# Altium footprint library OWMR.PcbLib: 29 footprints (part 1 of 2)
Each footprint in its own frame and in the unit in brackets; x right, y up, seen from the top. Pads: shape width x height; smd on the part's side, far side on the other; paste and mask are expansions set on the pad; w line width, h text height; cw(c..) or ccw(c..) is an arc to the next point about the centre after c.
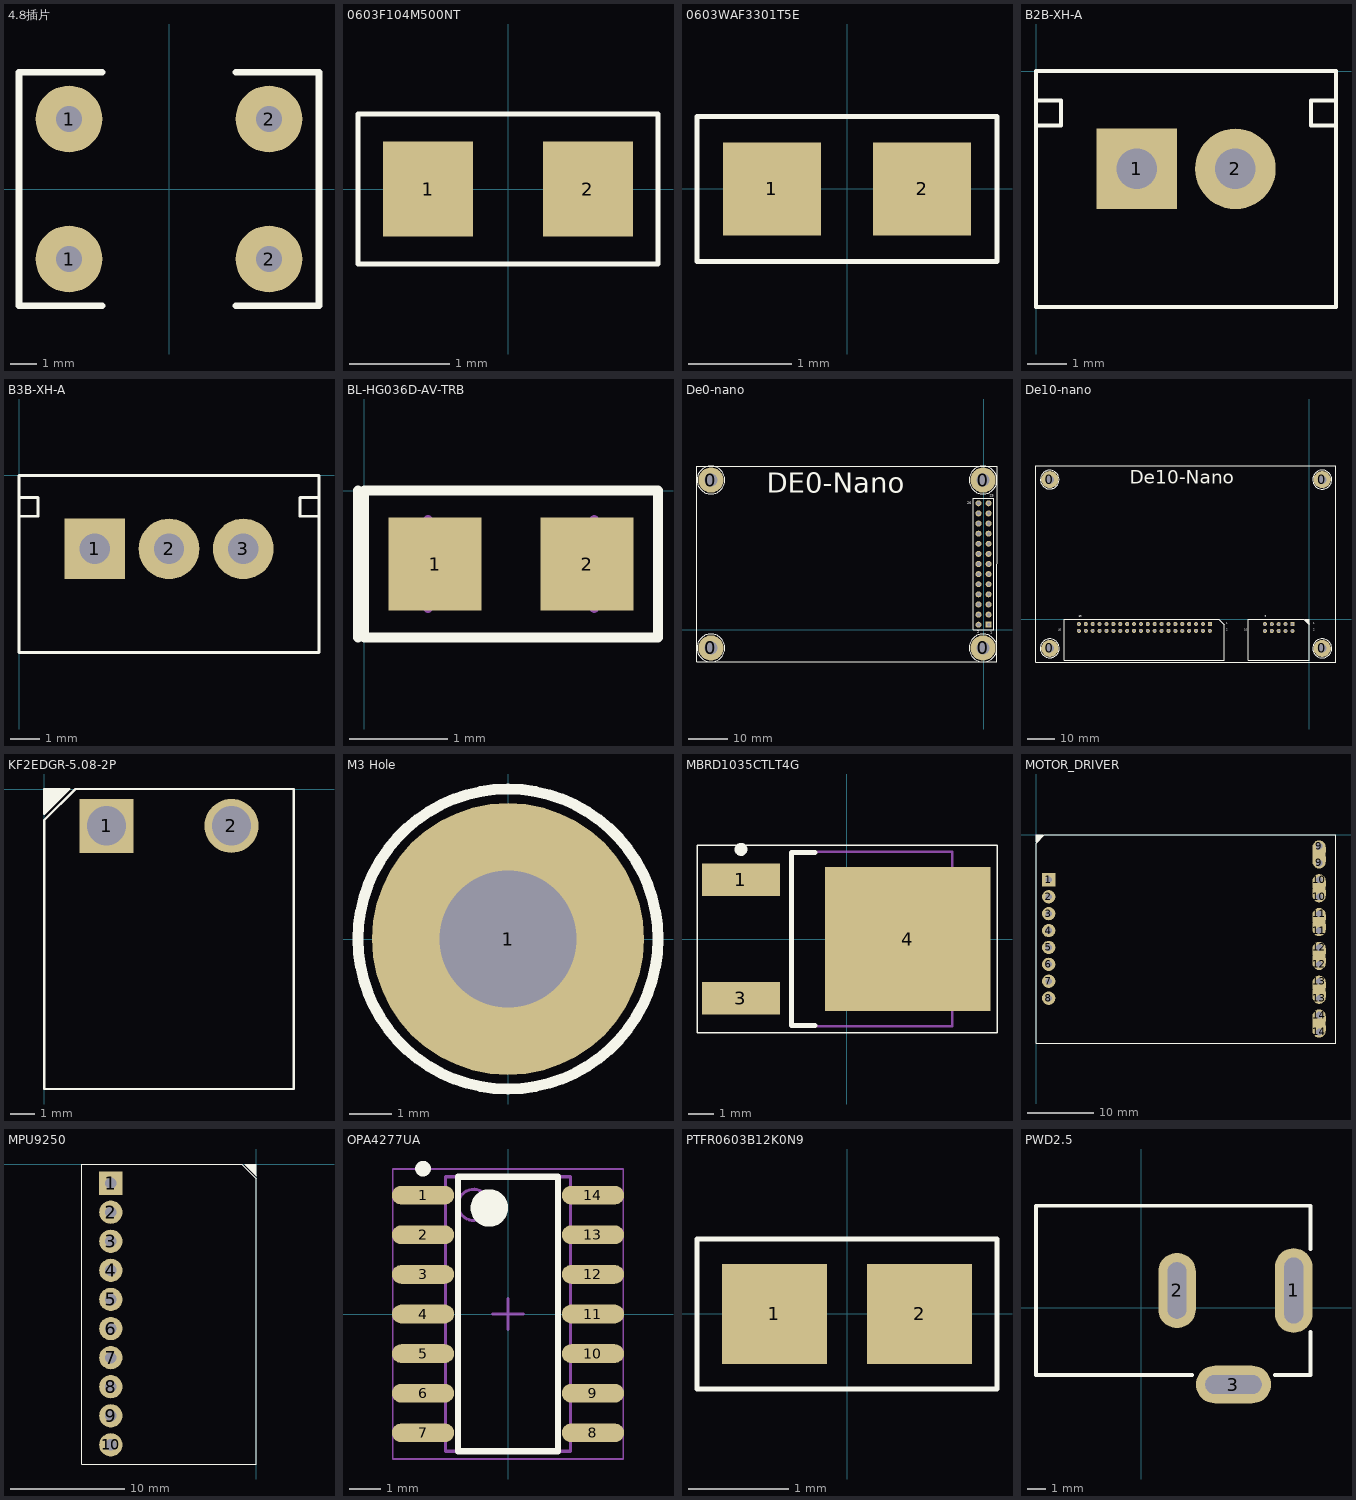
[diagram p0: the footprints below, top view; thin cyan lines are the x and y axes]

## 4.8插片 [mm]
pads (4):
  round 2.54 hole 1 square: 1(-3.81,-2.667) 1(-3.81,2.667) 2(3.81,-2.667) 2(3.81,2.667)
Top Overlay:
  lines w0.254: -2.54,-4.445 -5.715,-4.445 -5.715,4.445 -2.54,4.445 ; 2.54,-4.445 5.715,-4.445 5.715,4.445 2.54,4.445

## 0603F104M500NT [mm] "0603 50V 0.1uF SMD MLCC"
height 0.9
pads (2):
  rect 0.9x0.95 smd: 1(-0.8,0) 2(0.8,0)
Top Overlay:
  lines w0.05: -1.5,-0.75 -1.5,0.75 1.5,0.75 1.5,-0.75 -1.5,-0.75
3D body "CAPC1608X09N.step": height 0.9, standoff 0, extent -0.85,-0.45 0.85,0.45

## 0603WAF3301T5E [mm] "0603 SMD 3.3k 1% Res"
height 0.55
pads (2):
  rect 0.95x0.9 smd: 1(-0.725,0) 2(0.725,0)
Top Overlay:
  lines w0.05: -1.45,-0.7 1.45,-0.7 1.45,0.7 -1.45,0.7 -1.45,-0.7
3D body "RESC1608X06N.step": height 0.55, standoff 0, extent -0.85,-0.45 0.85,0.45

## B2B-XH-A [mil] "XH header, top vesion, 2 pin"
pads (2):
  rect 80x80 hole 40: 1(99.94,-96.94)
  round 80 hole 40: 2(197.94,-96.94)
Top Overlay:
  lines w3.94: 0,-53.94 25,-53.94 25,-28.94 0,-28.94 ; 297.87,-53.94 272.87,-53.94 272.87,-28.94 297.87,-28.94 ; 0,-233.87 297.87,-233.87 297.87,0 0,0 0,-233.87

## B3B-XH-A [mil] "XH Header-top 3P"
pads (3):
  rect 80x80 hole 40: 1(99.94,-96.94)
  round 80 hole 40: 2(197.94,-96.94) 3(295.94,-96.94)
Top Overlay:
  lines w3.94: 0,-53.94 25,-53.94 25,-28.94 0,-28.94 ; 395.87,-53.94 370.87,-53.94 370.87,-28.94 395.87,-28.94 ; 0,-233.87 395.87,-233.87 395.87,0 0,0 0,-233.87

## BL-HG036D-AV-TRB [mm] "0603 SMD LED(G)"
height 0.9
pads (2):
  rect 0.95x0.95 smd: 1(0.725,-0.75) 2(2.275,-0.75)
Top Overlay:
  lines w0.1: -0.064,-1.5 -0.064,0 ; 0,-1.5 3,-1.5 3,0 0,0 0,-1.5
Top Assembly:
  lines w0.1: 0.65,-1.2 0.65,-0.3 ; 2.35,-1.2 2.35,-0.3
3D body "DIOC1608X09N.step": height 0.9, standoff 0, extent 0.65,-1.2 2.35,-0.3

## De0-nano [mm]
pads (30):
  round 6.35 hole 3.2: 0(-68.453,-4.572) 0(-68.453,37.592) 0(-0.127,-4.572) 0(-0.127,37.592)
  rect 1.5x1.5 hole 0.9: 1(1.27,1.27)
  round 1.5 hole 0.9: 2(-1.27,1.27) 3(1.27,3.81) 4(-1.27,3.81) 5(1.27,6.35) 6(-1.27,6.35) 7(1.27,8.89) 8(-1.27,8.89) 9(1.27,11.43) 10(-1.27,11.43) 11(1.27,13.97) 12(-1.27,13.97) 13(1.27,16.51) 14(-1.27,16.51) 15(1.27,19.05) 16(-1.27,19.05) 17(1.27,21.59) 18(-1.27,21.59) 19(1.27,24.13) 20(-1.27,24.13) 21(1.27,26.67) 22(-1.27,26.67) 23(1.27,29.21) 24(-1.27,29.21) 25(1.27,31.75) 26(-1.27,31.75)
Top Overlay:
  circle w0.254: c-0.127,37.592 r3.504
  circle w0.254: c-68.453,-4.572 r3.504
  circle w0.254: c-0.127,-4.572 r3.504
  circle w0.254: c-68.453,37.592 r3.504
  lines w0.2: -2.54,0 -2.54,33.02 2.54,33.02 2.54,0 -2.54,0
  lines w0.254: -71.957,-8.076 -71.957,41.096 3.377,41.096 3.377,-8.076 -71.957,-8.076
  text "25" at 1.547,33.428 h0.64
  text "26" at -4.092,31.512 h0.64
  text "1" at 1.627,-1.068 h0.64
  text "2" at -1.644,-0.874 h0.64
  text "DE0-Nano" at -54.453,34.428 h5
Bottom Overlay:
  circle w0.254: c-68.453,-4.572 r3.504
  circle w0.254: c-0.127,-4.572 r3.504
  circle w0.254: c-68.453,37.592 r3.504
  circle w0.254: c-0.127,37.592 r3.504

## De10-nano [mm]
pads (54):
  round 6.35 hole 3.2: 0(-95.7,-10.7) 0(-95.7,51.53) 0(4.74,-10.7) 0(4.74,51.53)
  rect 1.5x1.5 hole 0.9: 1(-6.23,-1.73) 11(-36.7,-1.7)
  round 1.5 hole 0.9: 2(-6.23,-4.27) 3(-8.77,-1.73) 4(-8.77,-4.27) 5(-11.31,-1.73) 6(-11.31,-4.27) 7(-13.85,-1.73) 8(-13.85,-4.27) 9(-16.39,-1.73) 10(-16.39,-4.27) 12(-36.7,-4.24) 13(-39.24,-1.7) 14(-39.24,-4.24) 15(-41.78,-1.7) 16(-41.78,-4.24) 17(-44.32,-1.7) 18(-44.32,-4.24) 19(-46.86,-1.7) 20(-46.86,-4.24) 21(-49.4,-1.7) 22(-49.4,-4.24) 23(-51.94,-1.7) 24(-51.94,-4.24) 25(-54.48,-1.7) 26(-54.48,-4.24) 27(-57.02,-1.7) 28(-57.02,-4.24) 29(-59.56,-1.7) 30(-59.56,-4.24) 31(-62.1,-1.7) 32(-62.1,-4.24) 33(-64.64,-1.7) 34(-64.64,-4.24) 35(-67.18,-1.7) 36(-67.18,-4.24) 37(-69.72,-1.7) 38(-69.72,-4.24) 39(-72.26,-1.7) 40(-72.26,-4.24) 41(-74.8,-1.7) 42(-74.8,-4.24) 43(-77.34,-1.7) 44(-77.34,-4.24) 45(-79.88,-1.7) 46(-79.88,-4.24) 47(-82.42,-1.7) 48(-82.42,-4.24) 49(-84.96,-1.7) 50(-84.96,-4.24)
Top Overlay:
  circle w0.254: c4.74,-10.7 r3.502
  circle w0.254: c4.74,51.53 r3.504
  circle w0.254: c-95.7,51.53 r3.441
  circle w0.254: c-95.7,-10.7 r3.486
  lines w0.254: -1.25,0 -1.25,-0.25 0,-0.25 ; -1,0 -1,-0.5 0,-0.5 ; -0.75,0 -0.75,-0.75 0,-0.75 ; -0.5,0 -0.5,-1 0,-1 ; -0.25,0 -0.25,-1.25 0,-1.25 ; -100.78,-15.78 9.82,-15.78 9.82,56.61 -100.78,56.61 -100.78,-15.78 ; -90.29,-15.08 -90.29,0.03 -33.37,0.03 -31.37,-1.97 -31.37,-15.08 -90.29,-15.08 ; -22.62,-15.11 -22.62,0 -2,0 0,-2 0,-15.11 -22.62,-15.11 ; -1.5,0 0,-1.5 0,0 -1.5,0
  text "De10-Nano" at -66.19,50.07 h5
  text "40" at -92.59,-4.27 h0.64
  text "39" at -84.97,0.81 h0.64
  text "2" at 1.39,-4.27 h0.64
  text "1" at 1.39,-1.73 h0.64
  text "9" at -16.39,0.81 h0.64
  text "10" at -24.01,-4.27 h0.64
  text "2" at -30.63,-4.27 h0.64
  text "1" at -30.63,-1.73 h0.64
Bottom Overlay:
  circle w0.254: c4.74,51.53 r3.504
  circle w0.254: c4.74,-10.7 r3.502
  circle w0.254: c-95.7,51.53 r3.441
  circle w0.254: c-95.7,-10.7 r3.486

## KF2EDGR-5.08-2P [mm] "KF2EDGR-5.08 header, side version, 2 pin"
pads (2):
  rect 2.2x2.2 hole 1.6: 1(2.54,-1.5)
  round 2.2 hole 1.6: 2(7.62,-1.5)
Top Overlay:
  region: 0,0 1.016,0 0,-1.016
  lines w0.1: 0,-12.2 10.16,-12.2 10.16,0 1.27,0 0,-1.27 0,-12.2 ; 0,-1.016 0,0 1.016,0 0,-1.016
3D body: height 8.4, standoff 0, extent 0,-12.2 10.16,0

## M3 Hole [mm] "M3 Hole"
pads (1):
  round 6.35 hole 3.2: 1(0,0)
Top Overlay:
  circle w0.254: c0,0 r3.501
Bottom Overlay:
  circle w0.254: c0,0 r3.501
Top Assembly:
  circle w0.254: c0,0 r1.626

## MBRD1035CTLT4G [mm] "35V 5A 2Channel Diode IC"
height 2.38
pads (3):
  rect 3x1.25 smd: 1(-4.1,2.29) 3(-4.1,-2.29)
  rect 6.4x5.55 smd: 4(2.35,0)
Top Overlay:
  circle w0.25: c-4.1,3.465 r0.125
  lines w0.05: -5.8,-3.625 -5.8,3.625 5.8,3.625 5.8,-3.625 -5.8,-3.625
  lines w0.2: -1.25,-3.35 -2.15,-3.35 -2.15,3.35 -1.25,3.35
Top Assembly:
  lines w0.1: -2.15,-3.375 -2.15,3.375 4.07,3.375 4.07,-3.375 -2.15,-3.375
Bottom 3D body:
  lines w0.1: -0.5,0 0.5,0 ; 0,-0.5 0,0.5
3D body "DPAK229P991X238-3N.step": height 2.51, standoff 0, extent -4.14,-3.375 5.765,3.375

## MOTOR_DRIVER [mm] "MD02_17A_Motor_Driver"
pads (20):
  rect 2x2 hole 1: 1(1.905,-6.75)
  round 2 hole 1: 2(1.905,-9.29) 3(1.905,-11.83) 4(1.905,-14.37) 5(1.905,-16.91) 6(1.905,-19.45) 7(1.905,-21.99) 8(1.905,-24.53)
  oval 2x2.8 hole 1 copper offset 0,0.55: 9(42.545,-4.21) 10(42.545,-9.29) 11(42.545,-14.37) 12(42.545,-19.45) 13(42.545,-24.53) 14(42.545,-29.61)
  oval 2x2.8 hole 1 copper offset 0,-0.55: 9(42.545,-1.67) 10(42.545,-6.75) 11(42.545,-11.83) 12(42.545,-16.91) 13(42.545,-21.99) 14(42.545,-27.07)
Top Overlay:
  region: 1.016,0 0,-1.016 0,0
  lines w0.1: 0,-31.28 45.085,-31.28 45.085,0 1.27,0 0,-1.27 0,-31.28 ; 0,-1.016 0,0 1.016,0 0,-1.016
3D body: height 9.1, standoff 0, extent 41.275,-31.28 43.815,0
3D body: height 9.1, standoff 0, extent 0.635,-26.2 3.175,-5.08

## MPU9250 [mil] "MPU9250"
pads (10):
  rect 80x80 hole 40: 1(-500,-65.75)
  round 80 hole 40: 2(-500,-165.75) 3(-500,-265.75) 4(-500,-365.75) 5(-500,-465.75) 6(-500,-565.75) 7(-500,-665.75) 8(-500,-765.75) 9(-500,-865.75) 10(-500,-965.75)
Top Overlay:
  region: -40,0 0,0 0,-40
  lines w3.94: -600,-1031.5 -600,0 -50,0 0,-50 0,-1031.5 -600,-1031.5 ; -40,0 0,0 0,-40 -40,0
3D body: height 358.27, standoff 0, extent -560,-1031.5 -440,0

## OPA4277UA [mm] "SOIC, 14-Leads, Body 8.65x3.90mm, Pitch 1.27mm, IPC Medium Density"
height 1.75
pads (14):
  oval 2x0.6 smd: 1(-2.725,3.81) 2(-2.725,2.54) 3(-2.725,1.27) 4(-2.725,0) 5(-2.725,-1.27) 6(-2.725,-2.54) 7(-2.725,-3.81) 8(2.725,-3.81) 9(2.725,-2.54) 10(2.725,-1.27) 11(2.725,0) 12(2.725,1.27) 13(2.725,2.54) 14(2.725,3.81)
Top Overlay:
  circle w0.25: c-2.725,4.66 r0.125
  circle w0.6: c-0.6,3.4 r0.3
  lines w0.2: -1.6,-4.4 -1.6,4.4 1.6,4.4 1.6,-4.4 -1.6,-4.4
Top 3D body:
  circle w0.1: c-1.1,3.5 r0.5
  lines w0.1: -2,-4.4 -2,4.4 2,4.4 2,-4.4 -2,-4.4
Bottom 3D body:
  lines w0.05: -3.7,-4.65 -3.7,4.65 3.7,4.65 3.7,-4.65 -3.7,-4.65
  lines w0.1: -0.5,0 0.5,0 ; 0,-0.5 0,0.5
3D body "SOIC127P600X175-14N.step": height 1.75, standoff 0, extent -3,-4.4 3,4.4

## PTFR0603B12K0N9 [mm] "0603 SMD 12k 0.1% Res"
height 0.5
pads (2):
  rect 1.05x1 smd: 1(-0.725,0) 2(0.725,0)
Top Overlay:
  lines w0.05: -1.5,-0.75 -1.5,0.75 1.5,0.75 1.5,-0.75 -1.5,-0.75
3D body "RESC1608X05N.step": height 0.5, standoff 0, extent -0.9,-0.5 0.9,0.5

## PWD2.5 [mm]
pads (3):
  oval 2x4.5 hole 1 slot 3.5 at 90 deg: 1(8.105,0.905)
  oval 2x4 hole 1 slot 3 at 90 deg: 2(1.905,0.905)
  oval 4x2 hole 1 slot 3 at 0 deg: 3(4.905,-4.095)
Top Overlay:
  lines w0.2: 2.705,-3.595 -5.595,-3.595 -5.595,5.405 9.005,5.405 9.005,3.105 ; 7.105,-3.595 9.005,-3.595 9.005,-1.295